# EAGLE library part TPS7A8300 (library texas-instruments)
2-A, 6-µVRMS, RF, LDO Voltage Regulator
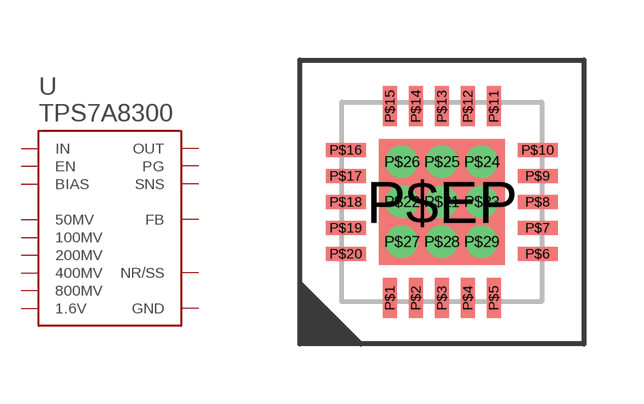
[diagram p24: symbol with the pads of S-PVQFN-N20; footprint S-PVQFN-N20]

Designator prefix U

## TPS7A8300RGW  [S-PVQFN-N20]
P$1  OUT
P$2  SNS
P$3  FB
P$4  PG
P$5  50MV
P$6  100MV
P$7  200MV
P$8  GND
P$9  400MV
P$10  800MV
P$11  1.6V
P$12  BIAS
P$13  NR/SS
P$14  EN
P$15  IN
P$16  IN
P$17  IN
P$18  GND
P$19  OUT
P$20  OUT
P$21  GND
P$22  GND
P$23  GND
P$24  GND
P$25  GND
P$26  GND
P$27  GND
P$28  GND
P$29  GND
P$EP  GND

## Footprint S-PVQFN-N20 (pad centres in mm)
smd 0.35 x 1: P$1 -1.3,-2.4; P$2 -0.65,-2.4; P$3 0,-2.4; P$4 0.65,-2.4; P$5 1.3,-2.4; P$11 1.3,2.4; P$12 0.65,2.4; P$13 0,2.4; P$14 -0.65,2.4; P$15 -1.3,2.4
smd 1 x 0.35: P$6 2.4,-1.3; P$7 2.4,-0.65; P$8 2.4,0; P$9 2.4,0.65; P$10 2.4,1.3; P$16 -2.4,1.3; P$17 -2.4,0.65; P$18 -2.4,0; P$19 -2.4,-0.65; P$20 -2.4,-1.3
drill 0.305 pad 0.406: P$21 0,0; P$22 -1,0; P$23 1,0; P$24 1,1; P$25 0,1; P$26 -1,1; P$27 -1,-1; P$28 0,-1; P$29 1,-1
smd 3.15 x 3.15: P$EP 0,0